# Altium footprint library 2020-09-21_21-24-32.PcbLib: 3 footprints
Each footprint in its own frame and in the unit in brackets; x right, y up, seen from the top. Pads: shape width x height; smd on the part's side, far side on the other; paste and mask are expansions set on the pad; w line width, h text height; cw(c..) or ccw(c..) is an arc to the next point about the centre after c.
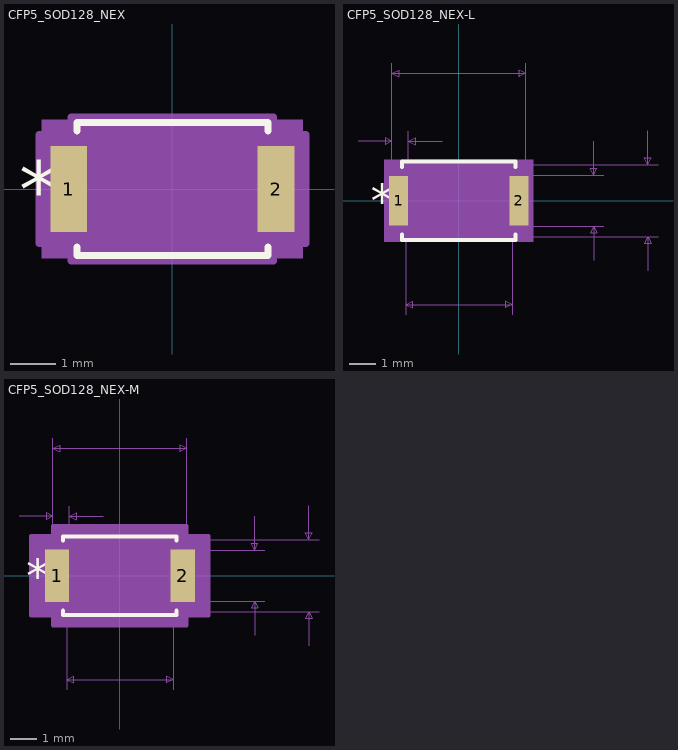
[diagram p0: the footprints below, top view; thin cyan lines are the x and y axes]

## CFP5_SOD128_NEX [mil]
pads (2):
  rect 32x75 smd paste+0 mask+0: 1(-90.5,0) 2(90.5,0)
Top Overlay:
  lines w6: -83.5,-50.6 -83.5,-58 83.5,-58 83.5,-50.6 ; -83.5,50.6 -83.5,58 83.5,58 83.5,50.6
  text "*" at -134,-25 h50
Mechanical 5:
  region: 114,-60.5 -114,-60.5 -114,60.5 114,60.5
Mechanical 13:
  lines w1: -78.5,-26.5 -52,-53 ; -78.5,26.5 -52,53 ; -98.5,-37.5 -78.5,-37.5 -78.5,37.5 -98.5,37.5 -98.5,-37.5 ; -78.5,-53 -78.5,53 78.5,53 78.5,-53 -78.5,-53 ; 78.5,-37.5 98.5,-37.5 98.5,37.5 78.5,37.5 78.5,-37.5
  text "*" at -81,-25 h50
Mechanical 15:
  region: -88.5,-47.5 -116.5,-47.5 -116.5,47.5 -88.5,47.5 -88.5,63 88.5,63 88.5,47.5 116.5,47.5 116.5,-47.5 88.5,-47.5 88.5,-63 -88.5,-63
  lines w6: -116.5,-47.5 -88.5,-47.5 -88.5,-63 88.5,-63 88.5,-47.5 116.5,-47.5 116.5,47.5 88.5,47.5 88.5,63 -88.5,63 -88.5,47.5 -116.5,47.5 -116.5,-47.5
3D body: height 10, standoff 0, extent 0,0 10,10

## CFP5_SOD128_NEX-L [mil]
pads (2):
  rect 28x73 smd paste+0 mask+0: 1(-88.5,0) 2(88.5,0)
Top Overlay:
  lines w6: -83.5,-49.6 -83.5,-58 83.5,-58 83.5,-49.6 ; -83.5,49.6 -83.5,58 83.5,58 83.5,49.6
  text "*" at -130,-25 h50
Mechanical 5:
  region: 110,-60.5 -110,-60.5 -110,60.5 110,60.5
Mechanical 7:
  lines w1: -148.5,87.5 -98.5,87.5 ; -98.5,102.5 -98.5,0 -98.5,202.5 ; -78.5,-168 -78.5,0 ; -74.5,0 -74.5,102.5 ; -24.5,87.5 -74.5,87.5 ; 0,-53 293.5,-53 ; 0,53 293.5,53 ; 78.5,-168 78.5,0 ; 98.5,-37.5 213.5,-37.5 ; 98.5,0 98.5,202.5 ; 98.5,37.5 213.5,37.5 ; 198.5,-87.5 198.5,-37.5 ; 198.5,87.5 198.5,37.5 ; 278.5,-103 278.5,-53 ; 278.5,103 278.5,53 ; -98.5,87.5 -108.5,92.5 -108.5,82.5 -98.5,87.5 ; -98.5,187.5 98.5,187.5 ; -98.5,187.5 -88.5,192.5 -88.5,182.5 -98.5,187.5 ; -78.5,-153 78.5,-153 ; -78.5,-153 -68.5,-148 -68.5,-158 -78.5,-153 ; -74.5,87.5 -64.5,92.5 -64.5,82.5 -74.5,87.5 ; 78.5,-153 68.5,-148 68.5,-158 78.5,-153 ; 98.5,187.5 88.5,192.5 88.5,182.5 98.5,187.5 ; 198.5,-37.5 193.5,-47.5 203.5,-47.5 198.5,-37.5 ; 198.5,37.5 193.5,47.5 203.5,47.5 198.5,37.5 ; 278.5,-53 273.5,-63 283.5,-63 278.5,-53 ; 278.5,53 273.5,63 283.5,63 278.5,53
  text "Default Padstyle: RX28Y73D0T" at -350,-361.5 h50
  text "Alt 1 Padstyle: OX60Y90D30P" at -337.5,-436.5 h50
  text "Alt 2 Padstyle: OX90Y60D30P" at -337.5,-511.5 h50
  text "0.197in/5.004mm" at -93.75,207.5 h25
  text "0.024in/0.61mm" at -174,107.5 h25
  text "0.075in/1.905mm" at 218.5,-12.5 h25
  text "0.106in/2.692mm" at 298.5,-12.5 h25
  text "0.157in/3.988mm" at -93.75,-198 h25
Mechanical 13:
  lines w1: -78.5,-26.5 -52,-53 ; -78.5,26.5 -52,53 ; -98.5,-37.5 -98.5,37.5 -78.5,37.5 -78.5,-37.5 -98.5,-37.5 ; -78.5,-53 78.5,-53 78.5,53 -78.5,53 -78.5,-53 ; 78.5,-37.5 78.5,37.5 98.5,37.5 98.5,-37.5 78.5,-37.5
  text "*" at -81,-25 h50
Mechanical 15:
  region: -82.5,-40.5 -106.5,-40.5 -106.5,40.5 -82.5,40.5 -82.5,57 82.5,57 82.5,40.5 106.5,40.5 106.5,-40.5 82.5,-40.5 82.5,-57 -82.5,-57
  lines w6: -106.5,-40.5 -106.5,40.5 -82.5,40.5 -82.5,57 82.5,57 82.5,40.5 106.5,40.5 106.5,-40.5 82.5,-40.5 82.5,-57 -82.5,-57 -82.5,-40.5 -106.5,-40.5
3D body: height 10, standoff 0, extent 0,0 10,10

## CFP5_SOD128_NEX-M [mil]
pads (2):
  rect 36x77 smd paste+0 mask+0: 1(-92.5,0) 2(92.5,0)
Top Overlay:
  lines w6: -83.5,-51.6 -83.5,-58 83.5,-58 83.5,-51.6 ; -83.5,51.6 -83.5,58 83.5,58 83.5,51.6
  text "*" at -138,-25 h50
Mechanical 5:
  region: 118,-60.5 -118,-60.5 -118,60.5 118,60.5
Mechanical 7:
  lines w1: -148.5,87.5 -98.5,87.5 ; -98.5,102.5 -98.5,0 -98.5,202.5 ; -78.5,-168 -78.5,0 ; -74.5,0 -74.5,102.5 ; -24.5,87.5 -74.5,87.5 ; 0,-53 293.5,-53 ; 0,53 293.5,53 ; 78.5,-168 78.5,0 ; 98.5,-37.5 213.5,-37.5 ; 98.5,0 98.5,202.5 ; 98.5,37.5 213.5,37.5 ; 198.5,-87.5 198.5,-37.5 ; 198.5,87.5 198.5,37.5 ; 278.5,-103 278.5,-53 ; 278.5,103 278.5,53 ; -98.5,87.5 -108.5,92.5 -108.5,82.5 -98.5,87.5 ; -98.5,187.5 98.5,187.5 ; -98.5,187.5 -88.5,192.5 -88.5,182.5 -98.5,187.5 ; -78.5,-153 78.5,-153 ; -78.5,-153 -68.5,-148 -68.5,-158 -78.5,-153 ; -74.5,87.5 -64.5,92.5 -64.5,82.5 -74.5,87.5 ; 78.5,-153 68.5,-148 68.5,-158 78.5,-153 ; 98.5,187.5 88.5,192.5 88.5,182.5 98.5,187.5 ; 198.5,-37.5 193.5,-47.5 203.5,-47.5 198.5,-37.5 ; 198.5,37.5 193.5,47.5 203.5,47.5 198.5,37.5 ; 278.5,-53 273.5,-63 283.5,-63 278.5,-53 ; 278.5,53 273.5,63 283.5,63 278.5,53
  text "Default Padstyle: RX36Y77D0T" at -350,-363.5 h50
  text "Alt 1 Padstyle: OX60Y90D30P" at -337.5,-438.5 h50
  text "Alt 2 Padstyle: OX90Y60D30P" at -337.5,-513.5 h50
  text "0.197in/5.004mm" at -93.75,207.5 h25
  text "0.024in/0.61mm" at -174,107.5 h25
  text "0.075in/1.905mm" at 218.5,-12.5 h25
  text "0.106in/2.692mm" at 298.5,-12.5 h25
  text "0.157in/3.988mm" at -93.75,-198 h25
Mechanical 13:
  lines w1: -78.5,-26.5 -52,-53 ; -78.5,26.5 -52,53 ; -98.5,-37.5 -98.5,37.5 -78.5,37.5 -78.5,-37.5 -98.5,-37.5 ; -78.5,-53 78.5,-53 78.5,53 -78.5,53 -78.5,-53 ; 78.5,-37.5 78.5,37.5 98.5,37.5 98.5,-37.5 78.5,-37.5
  text "*" at -81,-25 h50
Mechanical 15:
  region: -98.5,-58.5 -130.5,-58.5 -130.5,58.5 -98.5,58.5 -98.5,73 98.5,73 98.5,58.5 130.5,58.5 130.5,-58.5 98.5,-58.5 98.5,-73 -98.5,-73
  lines w6: -130.5,-58.5 -130.5,58.5 -98.5,58.5 -98.5,73 98.5,73 98.5,58.5 130.5,58.5 130.5,-58.5 98.5,-58.5 98.5,-73 -98.5,-73 -98.5,-58.5 -130.5,-58.5
3D body: height 10, standoff 0, extent 0,0 10,10